# Altium schematic symbol library WR-TBL_Spring Clamp.SchLib: 367 symbols (part 5 of 6)
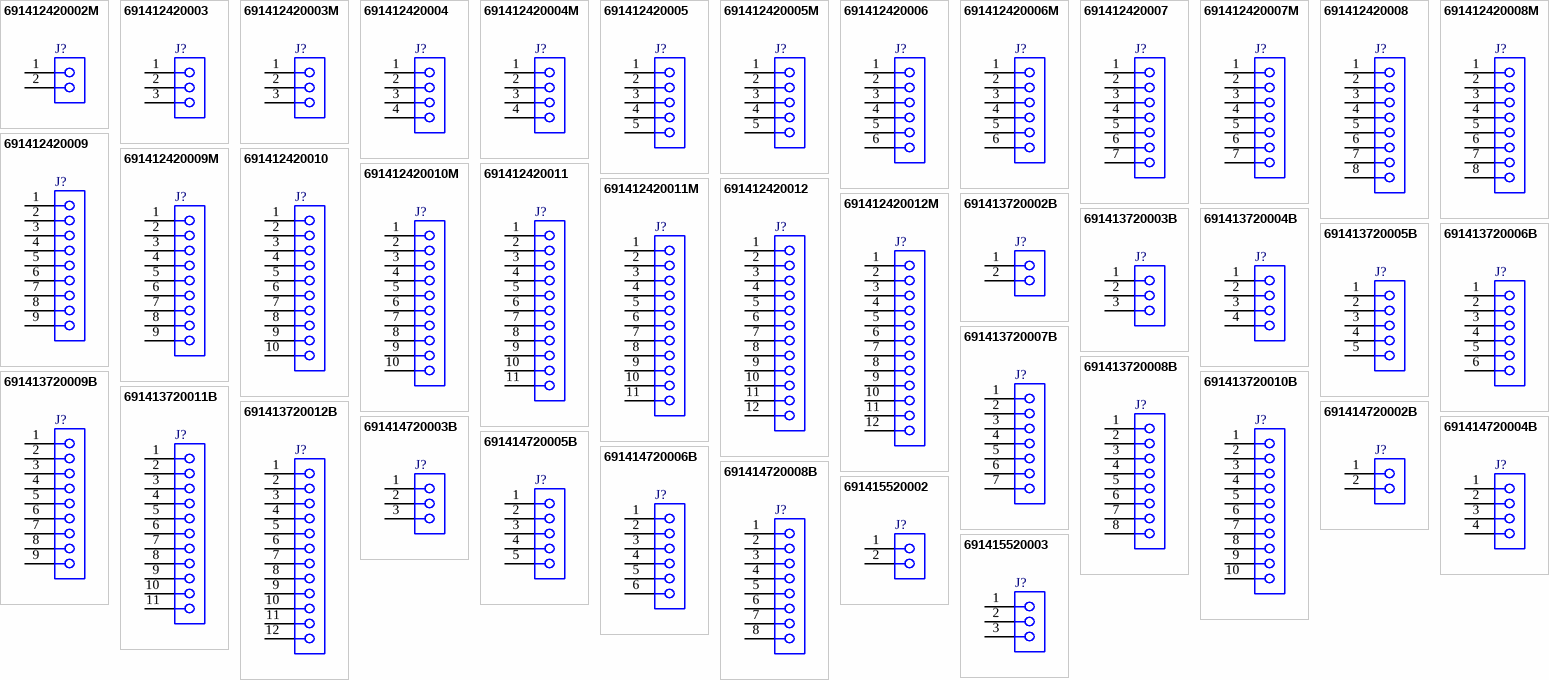
[diagram p13: symbols 691412420002M to 691415520003]

## 691412420005M
designator J?  (value not drawn)
WR-TBL Series 4124M 45° Entry, THT, pitch 7.62mm, 05p; Manufacturer: Wurth Elektronik; Modularity: No; Rated Current: 4A; Wire Section: 16 to 30 (AWG) 1.31 to 0.05 (mm^2); Working Voltage: 300V (AC); Manufacturer Part Number: 691412420005M; Product Series: WR-TBL; ComponentLink1Description: Website Link; ComponentLink1URL: https://www.we-online.com; ComponentLink2Description: Datasheet Link; ComponentLink2URL: https://www.we-online.com/components/products/datasheet/691412420005M; Mount: Through Hole; Operating Temperature Min: -30degC; Operating Temperature Max: 120degC; Packaging: Box; Application: Screwless; Number of Pins: 5; Number of Rows: 1; Orientation: 45deg; Lead Pitch: 7.62mm
footprint 691412420005M
pins: 1, 2, 3, 4, 5

## 691412420006
designator J?  (value not drawn)
WR-TBL Series 4124 45° Entry, THT, pitch 7.62mm, 06p; Manufacturer: Wurth Elektronik; Modularity: No; Rated Current: 4A; Wire Section: 16 to 30 (AWG) 1.31 to 0.05 (mm^2); Working Voltage: 300V (AC); Manufacturer Part Number: 691412420006; Product Series: WR-TBL; ComponentLink1Description: Website Link; ComponentLink1URL: https://www.we-online.com; ComponentLink2Description: Datasheet Link; ComponentLink2URL: https://www.we-online.com/components/products/datasheet/691412420006; Mount: Through Hole; Operating Temperature Min: -30degC; Operating Temperature Max: 120degC; Packaging: Box; Application: Screwless; Number of Pins: 6; Number of Rows: 1; Orientation: 45deg; Lead Pitch: 7.62mm
footprint 691412420006
pins: 1, 2, 3, 4, 5, 6

## 691412420006M
designator J?  (value not drawn)
WR-TBL Series 4124M 45° Entry, THT, pitch 7.62mm, 06p; Manufacturer: Wurth Elektronik; Modularity: No; Rated Current: 4A; Wire Section: 16 to 30 (AWG) 1.31 to 0.05 (mm^2); Working Voltage: 300V (AC); Manufacturer Part Number: 691412420006M; Product Series: WR-TBL; ComponentLink1Description: Website Link; ComponentLink1URL: https://www.we-online.com; ComponentLink2Description: Datasheet Link; ComponentLink2URL: https://www.we-online.com/components/products/datasheet/691412420006M; Mount: Through Hole; Operating Temperature Min: -30degC; Operating Temperature Max: 120degC; Packaging: Box; Application: Screwless; Number of Pins: 6; Number of Rows: 1; Orientation: 45deg; Lead Pitch: 7.62mm
footprint 691412420006M
pins: 1, 2, 3, 4, 5, 6

## 691412420007
designator J?  (value not drawn)
WR-TBL Series 4124 45° Entry, THT, pitch 7.62mm, 07p; Manufacturer: Wurth Elektronik; Modularity: No; Rated Current: 4A; Wire Section: 16 to 30 (AWG) 1.31 to 0.05 (mm^2); Working Voltage: 300V (AC); Manufacturer Part Number: 691412420007; Product Series: WR-TBL; ComponentLink1Description: Website Link; ComponentLink1URL: https://www.we-online.com; ComponentLink2Description: Datasheet Link; ComponentLink2URL: https://www.we-online.com/components/products/datasheet/691412420007; Mount: Through Hole; Operating Temperature Min: -30degC; Operating Temperature Max: 120degC; Packaging: Box; Application: Screwless; Number of Pins: 7; Number of Rows: 1; Orientation: 45deg; Lead Pitch: 7.62mm
footprint 691412420007
pins: 1, 2, 3, 4, 5, 6, 7

## 691412420007M
designator J?  (value not drawn)
WR-TBL Series 4124M 45° Entry, THT, pitch 7.62mm, 07p; Manufacturer: Wurth Elektronik; Modularity: No; Rated Current: 4A; Wire Section: 16 to 30 (AWG) 1.31 to 0.05 (mm^2); Working Voltage: 300V (AC); Manufacturer Part Number: 691412420007M; Product Series: WR-TBL; ComponentLink1Description: Website Link; ComponentLink1URL: https://www.we-online.com; ComponentLink2Description: Datasheet Link; ComponentLink2URL: https://www.we-online.com/components/products/datasheet/691412420007M; Mount: Through Hole; Operating Temperature Min: -30degC; Operating Temperature Max: 120degC; Packaging: Box; Application: Screwless; Number of Pins: 7; Number of Rows: 1; Orientation: 45deg; Lead Pitch: 7.62mm
footprint 691412420007M
pins: 1, 2, 3, 4, 5, 6, 7

## 691412420008
designator J?  (value not drawn)
WR-TBL Series 4124 45° Entry, THT, pitch 7.62mm, 08p; Manufacturer: Wurth Elektronik; Modularity: No; Rated Current: 4A; Wire Section: 16 to 30 (AWG) 1.31 to 0.05 (mm^2); Working Voltage: 300V (AC); Manufacturer Part Number: 691412420008; Product Series: WR-TBL; ComponentLink1Description: Website Link; ComponentLink1URL: https://www.we-online.com; ComponentLink2Description: Datasheet Link; ComponentLink2URL: https://www.we-online.com/components/products/datasheet/691412420008; Mount: Through Hole; Operating Temperature Min: -30degC; Operating Temperature Max: 120degC; Packaging: Box; Application: Screwless; Number of Pins: 8; Number of Rows: 1; Orientation: 45deg; Lead Pitch: 7.62mm
footprint 691412420008
pins: 1, 2, 3, 4, 5, 6, 7, 8

## 691412420008M
designator J?  (value not drawn)
WR-TBL Series 4124M 45° Entry, THT, pitch 7.62mm, 08p; Manufacturer: Wurth Elektronik; Modularity: No; Rated Current: 4A; Wire Section: 16 to 30 (AWG) 1.31 to 0.05 (mm^2); Working Voltage: 300V (AC); Manufacturer Part Number: 691412420008M; Product Series: WR-TBL; ComponentLink1Description: Website Link; ComponentLink1URL: https://www.we-online.com; ComponentLink2Description: Datasheet Link; ComponentLink2URL: https://www.we-online.com/components/products/datasheet/691412420008M; Mount: Through Hole; Operating Temperature Min: -30degC; Operating Temperature Max: 120degC; Packaging: Box; Application: Screwless; Number of Pins: 8; Number of Rows: 1; Orientation: 45deg; Lead Pitch: 7.62mm
footprint 691412420008M
pins: 1, 2, 3, 4, 5, 6, 7, 8

## 691412420009
designator J?  (value not drawn)
WR-TBL Series 4124 45° Entry, THT, pitch 7.62mm, 09p; Manufacturer: Wurth Elektronik; Modularity: No; Rated Current: 4A; Wire Section: 16 to 30 (AWG) 1.31 to 0.05 (mm^2); Working Voltage: 300V (AC); Manufacturer Part Number: 691412420009; Product Series: WR-TBL; ComponentLink1Description: Website Link; ComponentLink1URL: https://www.we-online.com; ComponentLink2Description: Datasheet Link; ComponentLink2URL: https://www.we-online.com/components/products/datasheet/691412420009; Mount: Through Hole; Operating Temperature Min: -30degC; Operating Temperature Max: 120degC; Packaging: Box; Application: Screwless; Number of Pins: 9; Number of Rows: 1; Orientation: 45deg; Lead Pitch: 7.62mm
footprint 691412420009
pins: 1, 2, 3, 4, 5, 6, 7, 8, 9

## 691412420009M
designator J?  (value not drawn)
WR-TBL Series 4124M 45° Entry, THT, pitch 7.62mm, 09p; Manufacturer: Wurth Elektronik; Modularity: No; Rated Current: 4A; Wire Section: 16 to 30 (AWG) 1.31 to 0.05 (mm^2); Working Voltage: 300V (AC); Manufacturer Part Number: 691412420009M; Product Series: WR-TBL; ComponentLink1Description: Website Link; ComponentLink1URL: https://www.we-online.com; ComponentLink2Description: Datasheet Link; ComponentLink2URL: https://www.we-online.com/components/products/datasheet/691412420009M; Mount: Through Hole; Operating Temperature Min: -30degC; Operating Temperature Max: 120degC; Packaging: Box; Application: Screwless; Number of Pins: 9; Number of Rows: 1; Orientation: 45deg; Lead Pitch: 7.62mm
footprint 691412420009M
pins: 1, 2, 3, 4, 5, 6, 7, 8, 9

## 691412420010
designator J?  (value not drawn)
WR-TBL Series 4124 45° Entry, THT, pitch 7.62mm, 10p; Manufacturer: Wurth Elektronik; Modularity: No; Rated Current: 4A; Wire Section: 16 to 30 (AWG) 1.31 to 0.05 (mm^2); Working Voltage: 300V (AC); Manufacturer Part Number: 691412420010; Product Series: WR-TBL; ComponentLink1Description: Website Link; ComponentLink1URL: https://www.we-online.com; ComponentLink2Description: Datasheet Link; ComponentLink2URL: https://www.we-online.com/components/products/datasheet/691412420010; Mount: Through Hole; Operating Temperature Min: -30degC; Operating Temperature Max: 120degC; Packaging: Box; Application: Screwless; Number of Pins: 10; Number of Rows: 1; Orientation: 45deg; Lead Pitch: 7.62mm
footprint 691412420010
pins: 1, 2, 3, 4, 5, 6, 7, 8, 9, 10

## 691412420010M
designator J?  (value not drawn)
WR-TBL Series 4124M 45° Entry, THT, pitch 7.62mm, 10p; Manufacturer: Wurth Elektronik; Modularity: No; Rated Current: 4A; Wire Section: 16 to 30 (AWG) 1.31 to 0.05 (mm^2); Working Voltage: 300V (AC); Manufacturer Part Number: 691412420010M; Product Series: WR-TBL; ComponentLink1Description: Website Link; ComponentLink1URL: https://www.we-online.com; ComponentLink2Description: Datasheet Link; ComponentLink2URL: https://www.we-online.com/components/products/datasheet/691412420010M; Mount: Through Hole; Operating Temperature Min: -30degC; Operating Temperature Max: 120degC; Packaging: Box; Application: Screwless; Number of Pins: 10; Number of Rows: 1; Orientation: 45deg; Lead Pitch: 7.62mm
footprint 691412420010M
pins: 1, 2, 3, 4, 5, 6, 7, 8, 9, 10

## 691412420011
designator J?  (value not drawn)
WR-TBL Series 4124 45° Entry, THT, pitch 7.62mm, 11p; Manufacturer: Wurth Elektronik; Modularity: No; Rated Current: 4A; Wire Section: 16 to 30 (AWG) 1.31 to 0.05 (mm^2); Working Voltage: 300V (AC); Manufacturer Part Number: 691412420011; Product Series: WR-TBL; ComponentLink1Description: Website Link; ComponentLink1URL: https://www.we-online.com; ComponentLink2Description: Datasheet Link; ComponentLink2URL: https://www.we-online.com/components/products/datasheet/691412420011; Mount: Through Hole; Operating Temperature Min: -30degC; Operating Temperature Max: 120degC; Packaging: Box; Application: Screwless; Number of Pins: 11; Number of Rows: 1; Orientation: 45deg; Lead Pitch: 7.62mm
footprint 691412420011
pins: 1, 2, 3, 4, 5, 6, 7, 8, 9, 10, 11

## 691412420011M
designator J?  (value not drawn)
WR-TBL Series 4124M 45° Entry, THT, pitch 7.62mm, 11p; Manufacturer: Wurth Elektronik; Modularity: No; Rated Current: 4A; Wire Section: 16 to 30 (AWG) 1.31 to 0.05 (mm^2); Working Voltage: 300V (AC); Manufacturer Part Number: 691412420011M; Product Series: WR-TBL; ComponentLink1Description: Website Link; ComponentLink1URL: https://www.we-online.com; ComponentLink2Description: Datasheet Link; ComponentLink2URL: https://www.we-online.com/components/products/datasheet/691412420011M; Mount: Through Hole; Operating Temperature Min: -30degC; Operating Temperature Max: 120degC; Packaging: Box; Application: Screwless; Number of Pins: 11; Number of Rows: 1; Orientation: 45deg; Lead Pitch: 7.62mm
footprint 691412420011M
pins: 1, 2, 3, 4, 5, 6, 7, 8, 9, 10, 11

## 691412420012
designator J?  (value not drawn)
WR-TBL Series 4124 45° Entry, THT, pitch 7.62mm, 12p; Manufacturer: Wurth Elektronik; Modularity: No; Rated Current: 4A; Wire Section: 16 to 30 (AWG) 1.31 to 0.05 (mm^2); Working Voltage: 300V (AC); Manufacturer Part Number: 691412420012; Product Series: WR-TBL; ComponentLink1Description: Website Link; ComponentLink1URL: https://www.we-online.com; ComponentLink2Description: Datasheet Link; ComponentLink2URL: https://www.we-online.com/components/products/datasheet/691412420012; Mount: Through Hole; Operating Temperature Min: -30degC; Operating Temperature Max: 120degC; Packaging: Box; Application: Screwless; Number of Pins: 12; Number of Rows: 1; Orientation: 45deg; Lead Pitch: 7.62mm
footprint 691412420012
pins: 1, 2, 3, 4, 5, 6, 7, 8, 9, 10, 11, 12

## 691412420012M
designator J?  (value not drawn)
WR-TBL Series 4124M 45° Entry, THT, pitch 7.62mm, 12p; Manufacturer: Wurth Elektronik; Modularity: No; Rated Current: 4A; Wire Section: 16 to 30 (AWG) 1.31 to 0.05 (mm^2); Working Voltage: 300V (AC); Manufacturer Part Number: 691412420012M; Product Series: WR-TBL; ComponentLink1Description: Website Link; ComponentLink1URL: https://www.we-online.com; ComponentLink2Description: Datasheet Link; ComponentLink2URL: https://www.we-online.com/components/products/datasheet/691412420012M; Mount: Through Hole; Operating Temperature Min: -30degC; Operating Temperature Max: 120degC; Packaging: Box; Application: Screwless; Number of Pins: 12; Number of Rows: 1; Orientation: 45deg; Lead Pitch: 7.62mm
footprint 691412420012M
pins: 1, 2, 3, 4, 5, 6, 7, 8, 9, 10, 11, 12

## 691413720002B
designator J?  (value not drawn)
WR-TBL Series 413B 45° Entry, THT, pitch 5mm, 02p; Manufacturer: Wurth Elektronik; Modularity: No; Rated Current: 15A; Wire Section: 12 to 28 (AWG) 3.31 to 0.0810 (mm^2); Working Voltage: 300V (AC); Manufacturer Part Number: 691413720002B; Product Series: WR-TBL; ComponentLink1Description: Website Link; ComponentLink1URL: https://www.we-online.com; ComponentLink2Description: Datasheet Link; ComponentLink2URL: https://www.we-online.com/components/products/datasheet/691413720002B; Mount: Through Hole; Operating Temperature Min: -40degC; Operating Temperature Max: 115degC; Packaging: Box; Application: Screwless; Number of Pins: 2; Number of Rows: 1; Orientation: 45deg; Lead Pitch: 5mm
footprint 691413720002B
pins: 1, 2

## 691413720003B
designator J?  (value not drawn)
WR-TBL Series 413B 45° Entry, THT, pitch 5mm, 03p; Manufacturer: Wurth Elektronik; Modularity: No; Rated Current: 15A; Wire Section: 12 to 28 (AWG) 3.31 to 0.0810 (mm^2); Working Voltage: 300V (AC); Manufacturer Part Number: 691413720003B; Product Series: WR-TBL; ComponentLink1Description: Website Link; ComponentLink1URL: https://www.we-online.com; ComponentLink2Description: Datasheet Link; ComponentLink2URL: https://www.we-online.com/components/products/datasheet/691413720003B; Mount: Through Hole; Operating Temperature Min: -40degC; Operating Temperature Max: 115degC; Packaging: Box; Application: Screwless; Number of Pins: 3; Number of Rows: 1; Orientation: 45deg; Lead Pitch: 5mm
footprint 691413720003B
pins: 1, 2, 3

## 691413720004B
designator J?  (value not drawn)
WR-TBL Series 413B 45° Entry, THT, pitch 5mm, 04p; Manufacturer: Wurth Elektronik; Modularity: No; Rated Current: 15A; Wire Section: 12 to 28 (AWG) 3.31 to 0.0810 (mm^2); Working Voltage: 300V (AC); Manufacturer Part Number: 691413720004B; Product Series: WR-TBL; ComponentLink1Description: Website Link; ComponentLink1URL: https://www.we-online.com; ComponentLink2Description: Datasheet Link; ComponentLink2URL: https://www.we-online.com/components/products/datasheet/691413720004B; Mount: Through Hole; Operating Temperature Min: -40degC; Operating Temperature Max: 115degC; Packaging: Box; Application: Screwless; Number of Pins: 4; Number of Rows: 1; Orientation: 45deg; Lead Pitch: 5mm
footprint 691413720004B
pins: 1, 2, 3, 4

## 691413720005B
designator J?  (value not drawn)
WR-TBL Series 413B 45° Entry, THT, pitch 5mm, 05p; Manufacturer: Wurth Elektronik; Modularity: No; Rated Current: 15A; Wire Section: 12 to 28 (AWG) 3.31 to 0.0810 (mm^2); Working Voltage: 300V (AC); Manufacturer Part Number: 691413720005B; Product Series: WR-TBL; ComponentLink1Description: Website Link; ComponentLink1URL: https://www.we-online.com; ComponentLink2Description: Datasheet Link; ComponentLink2URL: https://www.we-online.com/components/products/datasheet/691413720005B; Mount: Through Hole; Operating Temperature Min: -40degC; Operating Temperature Max: 115degC; Packaging: Box; Application: Screwless; Number of Pins: 5; Number of Rows: 1; Orientation: 45deg; Lead Pitch: 5mm
footprint 691413720005B
pins: 1, 2, 3, 4, 5

## 691413720006B
designator J?  (value not drawn)
WR-TBL Series 413B 45° Entry, THT, pitch 5mm, 06p; Manufacturer: Wurth Elektronik; Modularity: No; Rated Current: 15A; Wire Section: 12 to 28 (AWG) 3.31 to 0.0810 (mm^2); Working Voltage: 300V (AC); Manufacturer Part Number: 691413720006B; Product Series: WR-TBL; ComponentLink1Description: Website Link; ComponentLink1URL: https://www.we-online.com; ComponentLink2Description: Datasheet Link; ComponentLink2URL: https://www.we-online.com/components/products/datasheet/691413720006B; Mount: Through Hole; Operating Temperature Min: -40degC; Operating Temperature Max: 115degC; Packaging: Box; Application: Screwless; Number of Pins: 6; Number of Rows: 1; Orientation: 45deg; Lead Pitch: 5mm
footprint 691413720006B
pins: 1, 2, 3, 4, 5, 6

## 691413720007B
designator J?  (value not drawn)
WR-TBL Series 413B 45° Entry, THT, pitch 5mm, 07p; Manufacturer: Wurth Elektronik; Modularity: No; Rated Current: 15A; Wire Section: 12 to 28 (AWG) 3.31 to 0.0810 (mm^2); Working Voltage: 300V (AC); Manufacturer Part Number: 691413720007B; Product Series: WR-TBL; ComponentLink1Description: Website Link; ComponentLink1URL: https://www.we-online.com; ComponentLink2Description: Datasheet Link; ComponentLink2URL: https://www.we-online.com/components/products/datasheet/691413720007B; Mount: Through Hole; Operating Temperature Min: -40degC; Operating Temperature Max: 115degC; Packaging: Box; Application: Screwless; Number of Pins: 7; Number of Rows: 1; Orientation: 45deg; Lead Pitch: 5mm
footprint 691413720007B
pins: 1, 2, 3, 4, 5, 6, 7

## 691413720008B
designator J?  (value not drawn)
WR-TBL Series 413B 45° Entry, THT, pitch 5mm, 08p; Manufacturer: Wurth Elektronik; Modularity: No; Rated Current: 15A; Wire Section: 12 to 28 (AWG) 3.31 to 0.0810 (mm^2); Working Voltage: 300V (AC); Manufacturer Part Number: 691413720008B; Product Series: WR-TBL; ComponentLink1Description: Website Link; ComponentLink1URL: https://www.we-online.com; ComponentLink2Description: Datasheet Link; ComponentLink2URL: https://www.we-online.com/components/products/datasheet/691413720008B; Mount: Through Hole; Operating Temperature Min: -40degC; Operating Temperature Max: 115degC; Packaging: Box; Application: Screwless; Number of Pins: 8; Number of Rows: 1; Orientation: 45deg; Lead Pitch: 5mm
footprint 691413720008B
pins: 1, 2, 3, 4, 5, 6, 7, 8

## 691413720009B
designator J?  (value not drawn)
WR-TBL Series 413B 45° Entry, THT, pitch 5mm, 09p; Manufacturer: Wurth Elektronik; Modularity: No; Rated Current: 15A; Wire Section: 12 to 28 (AWG) 3.31 to 0.0810 (mm^2); Working Voltage: 300V (AC); Manufacturer Part Number: 691413720009B; Product Series: WR-TBL; ComponentLink1Description: Website Link; ComponentLink1URL: https://www.we-online.com; ComponentLink2Description: Datasheet Link; ComponentLink2URL: https://www.we-online.com/components/products/datasheet/691413720009B; Mount: Through Hole; Operating Temperature Min: -40degC; Operating Temperature Max: 115degC; Packaging: Box; Application: Screwless; Number of Pins: 9; Number of Rows: 1; Orientation: 45deg; Lead Pitch: 5mm
footprint 691413720009B
pins: 1, 2, 3, 4, 5, 6, 7, 8, 9

## 691413720010B
designator J?  (value not drawn)
WR-TBL Series 413B 45° Entry, THT, pitch 5mm, 10p; Manufacturer: Wurth Elektronik; Modularity: No; Rated Current: 15A; Wire Section: 12 to 28 (AWG) 3.31 to 0.0810 (mm^2); Working Voltage: 300V (AC); Manufacturer Part Number: 691413720010B; Product Series: WR-TBL; ComponentLink1Description: Website Link; ComponentLink1URL: https://www.we-online.com; ComponentLink2Description: Datasheet Link; ComponentLink2URL: https://www.we-online.com/components/products/datasheet/691413720010B; Mount: Through Hole; Operating Temperature Min: -40degC; Operating Temperature Max: 115degC; Packaging: Box; Application: Screwless; Number of Pins: 10; Number of Rows: 1; Orientation: 45deg; Lead Pitch: 5mm
footprint 691413720010B
pins: 1, 2, 3, 4, 5, 6, 7, 8, 9, 10

## 691413720011B
designator J?  (value not drawn)
WR-TBL Series 413B 45° Entry, THT, pitch 5mm, 11p; Manufacturer: Wurth Elektronik; Modularity: No; Rated Current: 15A; Wire Section: 12 to 28 (AWG) 3.31 to 0.0810 (mm^2); Working Voltage: 300V (AC); Manufacturer Part Number: 691413720011B; Product Series: WR-TBL; ComponentLink1Description: Website Link; ComponentLink1URL: https://www.we-online.com; ComponentLink2Description: Datasheet Link; ComponentLink2URL: https://www.we-online.com/components/products/datasheet/691413720011B; Mount: Through Hole; Operating Temperature Min: -40degC; Operating Temperature Max: 115degC; Packaging: Box; Application: Screwless; Number of Pins: 11; Number of Rows: 1; Orientation: 45deg; Lead Pitch: 5mm
footprint 691413720011B
pins: 1, 2, 3, 4, 5, 6, 7, 8, 9, 10, 11

## 691413720012B
designator J?  (value not drawn)
WR-TBL Series 413B 45° Entry, THT, pitch 5mm, 12p; Manufacturer: Wurth Elektronik; Modularity: No; Rated Current: 15A; Wire Section: 12 to 28 (AWG) 3.31 to 0.0810 (mm^2); Working Voltage: 300V (AC); Manufacturer Part Number: 691413720012B; Product Series: WR-TBL; ComponentLink1Description: Website Link; ComponentLink1URL: https://www.we-online.com; ComponentLink2Description: Datasheet Link; ComponentLink2URL: https://www.we-online.com/components/products/datasheet/691413720012B; Mount: Through Hole; Operating Temperature Min: -40degC; Operating Temperature Max: 115degC; Packaging: Box; Application: Screwless; Number of Pins: 12; Number of Rows: 1; Orientation: 45deg; Lead Pitch: 5mm
footprint 691413720012B
pins: 1, 2, 3, 4, 5, 6, 7, 8, 9, 10, 11, 12

## 691414720002B
designator J?  (value not drawn)
WR-TBL Series 4147B 45° Entry, THT, pitch 5mm, 02p; Manufacturer: Wurth Elektronik; Modularity: No; Rated Current: 16A; Wire Section: 14 to 28 (AWG) 2.08 to 0.0810 (mm^2); Working Voltage: 300V (AC); Manufacturer Part Number: 691414720002B; Product Series: WR-TBL; ComponentLink1Description: Website Link; ComponentLink1URL: https://www.we-online.com; ComponentLink2Description: Datasheet Link; ComponentLink2URL: https://www.we-online.com/components/products/datasheet/691414720002B; Mount: Through Hole; Operating Temperature Min: -40degC; Operating Temperature Max: 105degC; Packaging: Box; Application: Screwless; Number of Pins: 2; Number of Rows: 1; Orientation: 45deg; Lead Pitch: 5mm
footprint 691414720002B
pins: 1, 2

## 691414720003B
designator J?  (value not drawn)
WR-TBL Series 4147B 45° Entry, THT, pitch 5mm, 03p; Manufacturer: Wurth Elektronik; Modularity: No; Rated Current: 16A; Wire Section: 14 to 28 (AWG) 2.08 to 0.0810 (mm^2); Working Voltage: 300V (AC); Manufacturer Part Number: 691414720003B; Product Series: WR-TBL; ComponentLink1Description: Website Link; ComponentLink1URL: https://www.we-online.com; ComponentLink2Description: Datasheet Link; ComponentLink2URL: https://www.we-online.com/components/products/datasheet/691414720003B; Mount: Through Hole; Operating Temperature Min: -40degC; Operating Temperature Max: 105degC; Packaging: Box; Application: Screwless; Number of Pins: 3; Number of Rows: 1; Orientation: 45deg; Lead Pitch: 5mm
footprint 691414720003B
pins: 1, 2, 3

## 691414720004B
designator J?  (value not drawn)
WR-TBL Series 4147B 45° Entry, THT, pitch 5mm, 04p; Manufacturer: Wurth Elektronik; Modularity: No; Rated Current: 16A; Wire Section: 14 to 28 (AWG) 2.08 to 0.0810 (mm^2); Working Voltage: 300V (AC); Manufacturer Part Number: 691414720004B; Product Series: WR-TBL; ComponentLink1Description: Website Link; ComponentLink1URL: https://www.we-online.com; ComponentLink2Description: Datasheet Link; ComponentLink2URL: https://www.we-online.com/components/products/datasheet/691414720004B; Mount: Through Hole; Operating Temperature Min: -40degC; Operating Temperature Max: 105degC; Packaging: Box; Application: Screwless; Number of Pins: 4; Number of Rows: 1; Orientation: 45deg; Lead Pitch: 5mm
footprint 691414720004B
pins: 1, 2, 3, 4

## 691414720005B
designator J?  (value not drawn)
WR-TBL Series 4147B 45° Entry, THT, pitch 5mm, 05p; Manufacturer: Wurth Elektronik; Modularity: No; Rated Current: 16A; Wire Section: 14 to 28 (AWG) 2.08 to 0.0810 (mm^2); Working Voltage: 300V (AC); Manufacturer Part Number: 691414720005B; Product Series: WR-TBL; ComponentLink1Description: Website Link; ComponentLink1URL: https://www.we-online.com; ComponentLink2Description: Datasheet Link; ComponentLink2URL: https://www.we-online.com/components/products/datasheet/691414720005B; Mount: Through Hole; Operating Temperature Min: -40degC; Operating Temperature Max: 105degC; Packaging: Box; Application: Screwless; Number of Pins: 5; Number of Rows: 1; Orientation: 45deg; Lead Pitch: 5mm
footprint 691414720005B
pins: 1, 2, 3, 4, 5

## 691414720006B
designator J?  (value not drawn)
WR-TBL Series 4147B 45° Entry, THT, pitch 5mm, 06p; Manufacturer: Wurth Elektronik; Modularity: No; Rated Current: 16A; Wire Section: 14 to 28 (AWG) 2.08 to 0.0810 (mm^2); Working Voltage: 300V (AC); Manufacturer Part Number: 691414720006B; Product Series: WR-TBL; ComponentLink1Description: Website Link; ComponentLink1URL: https://www.we-online.com; ComponentLink2Description: Datasheet Link; ComponentLink2URL: https://www.we-online.com/components/products/datasheet/691414720006B; Mount: Through Hole; Operating Temperature Min: -40degC; Operating Temperature Max: 105degC; Packaging: Box; Application: Screwless; Number of Pins: 6; Number of Rows: 1; Orientation: 45deg; Lead Pitch: 5mm
footprint 691414720006B
pins: 1, 2, 3, 4, 5, 6

## 691414720008B
designator J?  (value not drawn)
WR-TBL Series 4147B 45° Entry, THT, pitch 5mm, 08p; Manufacturer: Wurth Elektronik; Modularity: No; Rated Current: 16A; Wire Section: 14 to 28 (AWG) 2.08 to 0.0810 (mm^2); Working Voltage: 300V (AC); Manufacturer Part Number: 691414720008B; Product Series: WR-TBL; ComponentLink1Description: Website Link; ComponentLink1URL: https://www.we-online.com; ComponentLink2Description: Datasheet Link; ComponentLink2URL: https://www.we-online.com/components/products/datasheet/691414720008B; Mount: Through Hole; Operating Temperature Min: -40degC; Operating Temperature Max: 105degC; Packaging: Box; Application: Screwless; Number of Pins: 8; Number of Rows: 1; Orientation: 45deg; Lead Pitch: 5mm
footprint 691414720008B
pins: 1, 2, 3, 4, 5, 6, 7, 8

## 691415520002
designator J?  (value not drawn)
WR-TBL Series 4155 45° Entry, THT, pitch 5.08mm, 02p; Manufacturer: Wurth Elektronik; Insulator Material: PA66; Modularity: No; Rated Current (cULus): 15A; Rated Current (VDE): 13.5A; Wire Section: 24 to 14 (AWG) 0.25 to 1.5 (mm^2); Working Voltage (cULus): 300V (AC); Working Voltage (VDE): 250V (AC); Withstanding Voltage (cULus): 1600V (AC); Withstanding Voltage (VDE): 2200V (AC); Manufacturer Part Number: 691415520002; Product Series: WR-TBL; ComponentLink1Description: Website Link; ComponentLink1URL: https://www.we-online.com; ComponentLink2Description: Datasheet Link; ComponentLink2URL: https://www.we-online.com/components/products/datasheet/691415520002; Mount: Through Hole; Operating Temperature Min: -30degC; Operating Temperature Max: 115degC; Packaging: Box; Application: Screwless; Number of Pins: 2; Number of Rows: 1; Orientation: 45deg; Lead Pitch: 5.08mm
footprint 691415520002
pins: 1, 2

## 691415520003
designator J?  (value not drawn)
WR-TBL Series 4155 45° Entry, THT, pitch 5.08mm, 03p; Manufacturer: Wurth Elektronik; Insulator Material: PA66; Modularity: No; Rated Current (cULus): 15A; Rated Current (VDE): 13.5A; Wire Section: 24 to 14 (AWG) 0.25 to 1.5 (mm^2); Working Voltage (cULus): 300V (AC); Working Voltage (VDE): 250V (AC); Withstanding Voltage (cULus): 1600V (AC); Withstanding Voltage (VDE): 2200V (AC); Manufacturer Part Number: 691415520003; Product Series: WR-TBL; ComponentLink1Description: Website Link; ComponentLink1URL: https://www.we-online.com; ComponentLink2Description: Datasheet Link; ComponentLink2URL: https://www.we-online.com/components/products/datasheet/691415520003; Mount: Through Hole; Operating Temperature Min: -30degC; Operating Temperature Max: 115degC; Packaging: Box; Application: Screwless; Number of Pins: 3; Number of Rows: 1; Orientation: 45deg; Lead Pitch: 5.08mm
footprint 691415520003
pins: 1, 2, 3

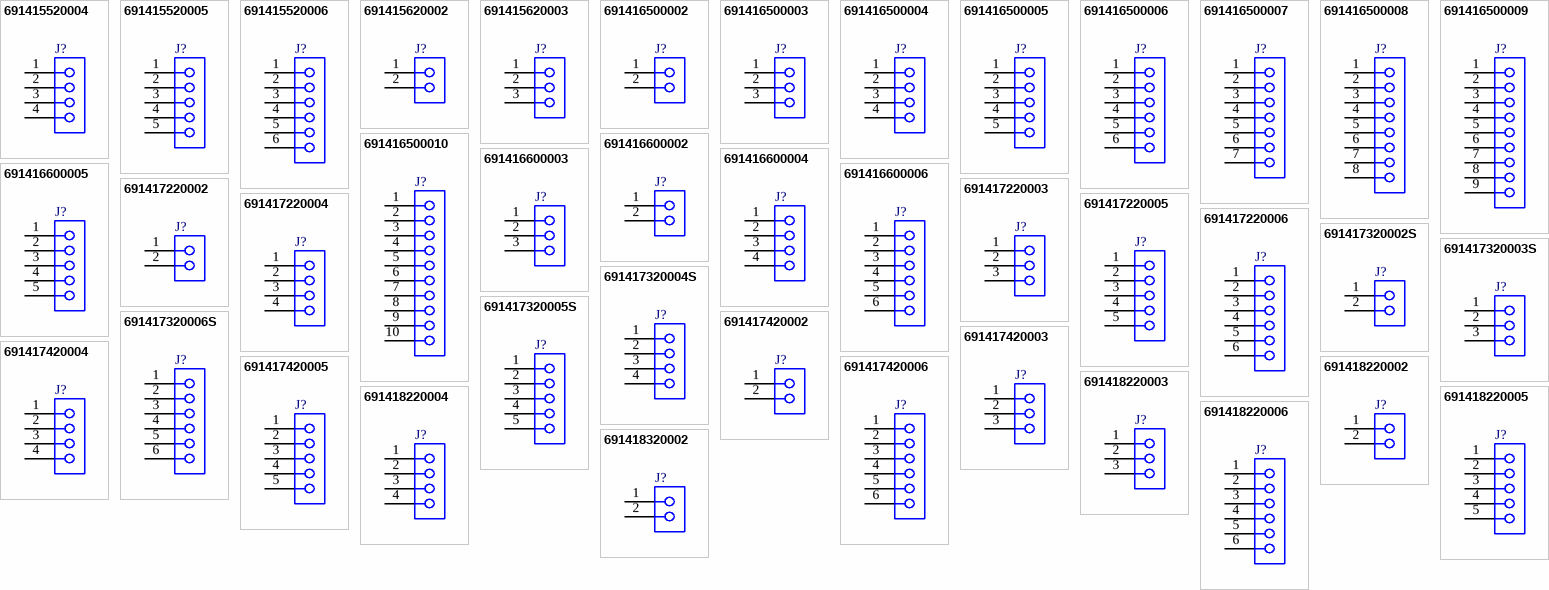
[diagram p7: symbols 691415520004 to 691418320002]

## 691415520004
designator J?  (value not drawn)
WR-TBL Series 4155 45° Entry, THT, pitch 5.08mm, 04p; Manufacturer: Wurth Elektronik; Insulator Material: PA66; Modularity: No; Rated Current (cULus): 15A; Rated Current (VDE): 13.5A; Wire Section: 24 to 14 (AWG) 0.25 to 1.5 (mm^2); Working Voltage (cULus): 300V (AC); Working Voltage (VDE): 250V (AC); Withstanding Voltage (cULus): 1600V (AC); Withstanding Voltage (VDE): 2200V (AC); Manufacturer Part Number: 691415520004; Product Series: WR-TBL; ComponentLink1Description: Website Link; ComponentLink1URL: https://www.we-online.com; ComponentLink2Description: Datasheet Link; ComponentLink2URL: https://www.we-online.com/components/products/datasheet/691415520004; Mount: Through Hole; Operating Temperature Min: -30degC; Operating Temperature Max: 115degC; Packaging: Box; Application: Screwless; Number of Pins: 4; Number of Rows: 1; Orientation: 45deg; Lead Pitch: 5.08mm
footprint 691415520004
pins: 1, 2, 3, 4

## 691415520005
designator J?  (value not drawn)
WR-TBL Series 4155 45° Entry, THT, pitch 5.08mm, 05p; Manufacturer: Wurth Elektronik; Insulator Material: PA66; Modularity: No; Rated Current (cULus): 15A; Rated Current (VDE): 13.5A; Wire Section: 24 to 14 (AWG) 0.25 to 1.5 (mm^2); Working Voltage (cULus): 300V (AC); Working Voltage (VDE): 250V (AC); Withstanding Voltage (cULus): 1600V (AC); Withstanding Voltage (VDE): 2200V (AC); Manufacturer Part Number: 691415520005; Product Series: WR-TBL; ComponentLink1Description: Website Link; ComponentLink1URL: https://www.we-online.com; ComponentLink2Description: Datasheet Link; ComponentLink2URL: https://www.we-online.com/components/products/datasheet/691415520005; Mount: Through Hole; Operating Temperature Min: -30degC; Operating Temperature Max: 115degC; Packaging: Box; Application: Screwless; Number of Pins: 5; Number of Rows: 1; Orientation: 45deg; Lead Pitch: 5.08mm
footprint 691415520005
pins: 1, 2, 3, 4, 5

## 691415520006
designator J?  (value not drawn)
WR-TBL Series 4155 45° Entry, THT, pitch 5.08mm, 06p; Manufacturer: Wurth Elektronik; Insulator Material: PA66; Modularity: No; Rated Current (cULus): 15A; Rated Current (VDE): 13.5A; Wire Section: 24 to 14 (AWG) 0.25 to 1.5 (mm^2); Working Voltage (cULus): 300V (AC); Working Voltage (VDE): 250V (AC); Withstanding Voltage (cULus): 1600V (AC); Withstanding Voltage (VDE): 2200V (AC); Manufacturer Part Number: 691415520006; Product Series: WR-TBL; ComponentLink1Description: Website Link; ComponentLink1URL: https://www.we-online.com; ComponentLink2Description: Datasheet Link; ComponentLink2URL: https://www.we-online.com/components/products/datasheet/691415520006; Mount: Through Hole; Operating Temperature Min: -30degC; Operating Temperature Max: 115degC; Packaging: Box; Application: Screwless; Number of Pins: 6; Number of Rows: 1; Orientation: 45deg; Lead Pitch: 5.08mm
footprint 691415520006
pins: 1, 2, 3, 4, 5, 6

## 691415620002
designator J?  (value not drawn)
WR-TBL Series 4156 45° Entry, THT, pitch 10.16mm, 02p; Manufacturer: Wurth Elektronik; Insulator Material: PA66; Modularity: No; Rated Current (cULus): 15A; Rated Current (VDE): 13.5A; Wire Section: 24 to 14 (AWG) 0.25 to 1.5 (mm^2); Working Voltage (cULus): 300V (AC); Working Voltage (VDE): 1000V (AC); Withstanding Voltage (cULus): 1600V (AC); Withstanding Voltage (VDE): 4200V (AC); Manufacturer Part Number: 691415620002; Product Series: WR-TBL; ComponentLink1Description: Website Link; ComponentLink1URL: https://www.we-online.com; ComponentLink2Description: Datasheet Link; ComponentLink2URL: https://www.we-online.com/components/products/datasheet/691415620002; Mount: Through Hole; Operating Temperature Min: -30degC; Operating Temperature Max: 110degC; Packaging: Box; Application: Screwless; Number of Pins: 2; Number of Rows: 1; Orientation: 45deg; Lead Pitch: 10.16mm
footprint 691415620002
pins: 1, 2

## 691415620003
designator J?  (value not drawn)
WR-TBL Series 4156 45° Entry, THT, pitch 10.16mm, 03p; Manufacturer: Wurth Elektronik; Insulator Material: PA66; Modularity: No; Rated Current (cULus): 15A; Rated Current (VDE): 13.5A; Wire Section: 24 to 14 (AWG) 0.25 to 1.5 (mm^2); Working Voltage (cULus): 300V (AC); Working Voltage (VDE): 1000V (AC); Withstanding Voltage (cULus): 1600V (AC); Withstanding Voltage (VDE): 4200V (AC); Manufacturer Part Number: 691415620003; Product Series: WR-TBL; ComponentLink1Description: Website Link; ComponentLink1URL: https://www.we-online.com; ComponentLink2Description: Datasheet Link; ComponentLink2URL: https://www.we-online.com/components/products/datasheet/691415620003; Mount: Through Hole; Operating Temperature Min: -30degC; Operating Temperature Max: 110degC; Packaging: Box; Application: Screwless; Number of Pins: 3; Number of Rows: 1; Orientation: 45deg; Lead Pitch: 10.16mm
footprint 691415620003
pins: 1, 2, 3

## 691416500002
designator J?  (value not drawn)
WR-TBL Series 4165 Vertical Entry, THT, pitch 5.08mm, 02p; Manufacturer: Wurth Elektronik; Modularity: No; Rated Current: 10A; Wire Section: 16 to 30 (AWG) 1.31 to 0.0509 (mm^2); Working Voltage: 300V (AC); Manufacturer Part Number: 691416500002; Product Series: WR-TBL; ComponentLink1Description: Website Link; ComponentLink1URL: https://www.we-online.com; ComponentLink2Description: Datasheet Link; ComponentLink2URL: https://www.we-online.com/components/products/datasheet/691416500002; Mount: Through Hole; Operating Temperature Min: -30degC; Operating Temperature Max: 120degC; Packaging: Box; Application: Screwless; Number of Pins: 2; Number of Rows: 1; Orientation: Vertical; Lead Pitch: 5.08mm
footprint 691416500002
pins: 1, 2

## 691416500003
designator J?  (value not drawn)
WR-TBL Series 4165 Vertical Entry, THT, pitch 5.08mm, 03p; Manufacturer: Wurth Elektronik; Modularity: No; Rated Current: 10A; Wire Section: 16 to 30 (AWG) 1.31 to 0.0509 (mm^2); Working Voltage: 300V (AC); Manufacturer Part Number: 691416500003; Product Series: WR-TBL; ComponentLink1Description: Website Link; ComponentLink1URL: https://www.we-online.com; ComponentLink2Description: Datasheet Link; ComponentLink2URL: https://www.we-online.com/components/products/datasheet/691416500003; Mount: Through Hole; Operating Temperature Min: -30degC; Operating Temperature Max: 120degC; Packaging: Box; Application: Screwless; Number of Pins: 3; Number of Rows: 1; Orientation: Vertical; Lead Pitch: 5.08mm
footprint 691416500003
pins: 1, 2, 3

## 691416500004
designator J?  (value not drawn)
WR-TBL Series 4165 Vertical Entry, THT, pitch 5.08mm, 04p; Manufacturer: Wurth Elektronik; Modularity: No; Rated Current: 10A; Wire Section: 16 to 30 (AWG) 1.31 to 0.0509 (mm^2); Working Voltage: 300V (AC); Manufacturer Part Number: 691416500004; Product Series: WR-TBL; ComponentLink1Description: Website Link; ComponentLink1URL: https://www.we-online.com; ComponentLink2Description: Datasheet Link; ComponentLink2URL: https://www.we-online.com/components/products/datasheet/691416500004; Mount: Through Hole; Operating Temperature Min: -30degC; Operating Temperature Max: 120degC; Packaging: Box; Application: Screwless; Number of Pins: 4; Number of Rows: 1; Orientation: Vertical; Lead Pitch: 5.08mm
footprint 691416500004
pins: 1, 2, 3, 4

## 691416500005
designator J?  (value not drawn)
WR-TBL Series 4165 Vertical Entry, THT, pitch 5.08mm, 05p; Manufacturer: Wurth Elektronik; Modularity: No; Rated Current: 10A; Wire Section: 16 to 30 (AWG) 1.31 to 0.0509 (mm^2); Working Voltage: 300V (AC); Manufacturer Part Number: 691416500005; Product Series: WR-TBL; ComponentLink1Description: Website Link; ComponentLink1URL: https://www.we-online.com; ComponentLink2Description: Datasheet Link; ComponentLink2URL: https://www.we-online.com/components/products/datasheet/691416500005; Mount: Through Hole; Operating Temperature Min: -30degC; Operating Temperature Max: 120degC; Packaging: Box; Application: Screwless; Number of Pins: 5; Number of Rows: 1; Orientation: Vertical; Lead Pitch: 5.08mm
footprint 691416500005
pins: 1, 2, 3, 4, 5

## 691416500006
designator J?  (value not drawn)
WR-TBL Series 4165 Vertical Entry, THT, pitch 5.08mm, 06p; Manufacturer: Wurth Elektronik; Modularity: No; Rated Current: 10A; Wire Section: 16 to 30 (AWG) 1.31 to 0.0509 (mm^2); Working Voltage: 300V (AC); Manufacturer Part Number: 691416500006; Product Series: WR-TBL; ComponentLink1Description: Website Link; ComponentLink1URL: https://www.we-online.com; ComponentLink2Description: Datasheet Link; ComponentLink2URL: https://www.we-online.com/components/products/datasheet/691416500006; Mount: Through Hole; Operating Temperature Min: -30degC; Operating Temperature Max: 120degC; Packaging: Box; Application: Screwless; Number of Pins: 6; Number of Rows: 1; Orientation: Vertical; Lead Pitch: 5.08mm
footprint 691416500006
pins: 1, 2, 3, 4, 5, 6

## 691416500007
designator J?  (value not drawn)
WR-TBL Series 4165 Vertical Entry, THT, pitch 5.08mm, 07p; Manufacturer: Wurth Elektronik; Modularity: No; Rated Current: 10A; Wire Section: 16 to 30 (AWG) 1.31 to 0.0509 (mm^2); Working Voltage: 300V (AC); Manufacturer Part Number: 691416500007; Product Series: WR-TBL; ComponentLink1Description: Website Link; ComponentLink1URL: https://www.we-online.com; ComponentLink2Description: Datasheet Link; ComponentLink2URL: https://www.we-online.com/components/products/datasheet/691416500007; Mount: Through Hole; Operating Temperature Min: -30degC; Operating Temperature Max: 120degC; Packaging: Box; Application: Screwless; Number of Pins: 7; Number of Rows: 1; Orientation: Vertical; Lead Pitch: 5.08mm
footprint 691416500007
pins: 1, 2, 3, 4, 5, 6, 7

## 691416500008
designator J?  (value not drawn)
WR-TBL Series 4165 Vertical Entry, THT, pitch 5.08mm, 08p; Manufacturer: Wurth Elektronik; Modularity: No; Rated Current: 10A; Wire Section: 16 to 30 (AWG) 1.31 to 0.0509 (mm^2); Working Voltage: 300V (AC); Manufacturer Part Number: 691416500008; Product Series: WR-TBL; ComponentLink1Description: Website Link; ComponentLink1URL: https://www.we-online.com; ComponentLink2Description: Datasheet Link; ComponentLink2URL: https://www.we-online.com/components/products/datasheet/691416500008; Mount: Through Hole; Operating Temperature Min: -30degC; Operating Temperature Max: 120degC; Packaging: Box; Application: Screwless; Number of Pins: 8; Number of Rows: 1; Orientation: Vertical; Lead Pitch: 5.08mm
footprint 691416500008
pins: 1, 2, 3, 4, 5, 6, 7, 8

## 691416500009
designator J?  (value not drawn)
WR-TBL Series 4165 Vertical Entry, THT, pitch 5.08mm, 09p; Manufacturer: Wurth Elektronik; Modularity: No; Rated Current: 10A; Wire Section: 16 to 30 (AWG) 1.31 to 0.0509 (mm^2); Working Voltage: 300V (AC); Manufacturer Part Number: 691416500009; Product Series: WR-TBL; ComponentLink1Description: Website Link; ComponentLink1URL: https://www.we-online.com; ComponentLink2Description: Datasheet Link; ComponentLink2URL: https://www.we-online.com/components/products/datasheet/691416500009; Mount: Through Hole; Operating Temperature Min: -30degC; Operating Temperature Max: 120degC; Packaging: Box; Application: Screwless; Number of Pins: 9; Number of Rows: 1; Orientation: Vertical; Lead Pitch: 5.08mm
footprint 691416500009
pins: 1, 2, 3, 4, 5, 6, 7, 8, 9

## 691416500010
designator J?  (value not drawn)
WR-TBL Series 4165 Vertical Entry, THT, pitch 5.08mm, 10p; Manufacturer: Wurth Elektronik; Modularity: No; Rated Current: 10A; Wire Section: 16 to 30 (AWG) 1.31 to 0.0509 (mm^2); Working Voltage: 300V (AC); Manufacturer Part Number: 691416500010; Product Series: WR-TBL; ComponentLink1Description: Website Link; ComponentLink1URL: https://www.we-online.com; ComponentLink2Description: Datasheet Link; ComponentLink2URL: https://www.we-online.com/components/products/datasheet/691416500010; Mount: Through Hole; Operating Temperature Min: -30degC; Operating Temperature Max: 120degC; Packaging: Box; Application: Screwless; Number of Pins: 10; Number of Rows: 1; Orientation: Vertical; Lead Pitch: 5.08mm
footprint 691416500010
pins: 1, 2, 3, 4, 5, 6, 7, 8, 9, 10

## 691416600002
designator J?  (value not drawn)
WR-TBL Series 4166 Vertical Entry, THT, pitch 10.16mm, 02p; Manufacturer: Wurth Elektronik; Modularity: No; Rated Current: 10A; Wire Section: 16 to 30 (AWG) 1.31 to 0.0509 (mm^2); Working Voltage: 300V (AC); Manufacturer Part Number: 691416600002; Product Series: WR-TBL; ComponentLink1Description: Website Link; ComponentLink1URL: https://www.we-online.com; ComponentLink2Description: Datasheet Link; ComponentLink2URL: https://www.we-online.com/components/products/datasheet/691416600002; Mount: Through Hole; Operating Temperature Min: -30degC; Operating Temperature Max: 120degC; Packaging: Box; Application: Screwless; Number of Pins: 2; Number of Rows: 1; Orientation: Vertical; Lead Pitch: 10.16mm
footprint 691416600002
pins: 1, 2

## 691416600003
designator J?  (value not drawn)
WR-TBL Series 4166 Vertical Entry, THT, pitch 10.16mm, 03p; Manufacturer: Wurth Elektronik; Modularity: No; Rated Current: 10A; Wire Section: 16 to 30 (AWG) 1.31 to 0.0509 (mm^2); Working Voltage: 300V (AC); Manufacturer Part Number: 691416600003; Product Series: WR-TBL; ComponentLink1Description: Website Link; ComponentLink1URL: https://www.we-online.com; ComponentLink2Description: Datasheet Link; ComponentLink2URL: https://www.we-online.com/components/products/datasheet/691416600003; Mount: Through Hole; Operating Temperature Min: -30degC; Operating Temperature Max: 120degC; Packaging: Box; Application: Screwless; Number of Pins: 3; Number of Rows: 1; Orientation: Vertical; Lead Pitch: 10.16mm
footprint 691416600003
pins: 1, 2, 3

## 691416600004
designator J?  (value not drawn)
WR-TBL Series 4166 Vertical Entry, THT, pitch 10.16mm, 04p; Manufacturer: Wurth Elektronik; Modularity: No; Rated Current: 10A; Wire Section: 16 to 30 (AWG) 1.31 to 0.0509 (mm^2); Working Voltage: 300V (AC); Manufacturer Part Number: 691416600004; Product Series: WR-TBL; ComponentLink1Description: Website Link; ComponentLink1URL: https://www.we-online.com; ComponentLink2Description: Datasheet Link; ComponentLink2URL: https://www.we-online.com/components/products/datasheet/691416600004; Mount: Through Hole; Operating Temperature Min: -30degC; Operating Temperature Max: 120degC; Packaging: Box; Application: Screwless; Number of Pins: 4; Number of Rows: 1; Orientation: Vertical; Lead Pitch: 10.16mm
footprint 691416600004
pins: 1, 2, 3, 4

## 691416600005
designator J?  (value not drawn)
WR-TBL Series 4166 Vertical Entry, THT, pitch 10.16mm, 05p; Manufacturer: Wurth Elektronik; Modularity: No; Rated Current: 10A; Wire Section: 16 to 30 (AWG) 1.31 to 0.0509 (mm^2); Working Voltage: 300V (AC); Manufacturer Part Number: 691416600005; Product Series: WR-TBL; ComponentLink1Description: Website Link; ComponentLink1URL: https://www.we-online.com; ComponentLink2Description: Datasheet Link; ComponentLink2URL: https://www.we-online.com/components/products/datasheet/691416600005; Mount: Through Hole; Operating Temperature Min: -30degC; Operating Temperature Max: 120degC; Packaging: Box; Application: Screwless; Number of Pins: 5; Number of Rows: 1; Orientation: Vertical; Lead Pitch: 10.16mm
footprint 691416600005
pins: 1, 2, 3, 4, 5

## 691416600006
designator J?  (value not drawn)
WR-TBL Series 4166 Vertical Entry, THT, pitch 10.16mm, 06p; Manufacturer: Wurth Elektronik; Modularity: No; Rated Current: 10A; Wire Section: 16 to 30 (AWG) 1.31 to 0.0509 (mm^2); Working Voltage: 300V (AC); Manufacturer Part Number: 691416600006; Product Series: WR-TBL; ComponentLink1Description: Website Link; ComponentLink1URL: https://www.we-online.com; ComponentLink2Description: Datasheet Link; ComponentLink2URL: https://www.we-online.com/components/products/datasheet/691416600006; Mount: Through Hole; Operating Temperature Min: -30degC; Operating Temperature Max: 120degC; Packaging: Box; Application: Screwless; Number of Pins: 6; Number of Rows: 1; Orientation: Vertical; Lead Pitch: 10.16mm
footprint 691416600006
pins: 1, 2, 3, 4, 5, 6

## 691417220002
designator J?  (value not drawn)
WR-TBL Series 4172 45° Cable Entry, THT, pitch 7mm, 02p; Manufacturer: Wurth Elektronik; Modularity: No; Rated Current: 4A; Wire Section: 16 to 30 (AWG) 1.31 to 0.0509 (mm^2); Working Voltage: 300V (AC); Manufacturer Part Number: 691417220002; Product Series: WR-TBL; ComponentLink1Description: Website Link; ComponentLink1URL: https://www.we-online.com; ComponentLink2Description: Datasheet Link; ComponentLink2URL: https://www.we-online.com/components/products/datasheet/691417220002; Mount: Through Hole; Operating Temperature Min: -30degC; Operating Temperature Max: 120degC; Packaging: Box; Application: Screwless; Number of Pins: 2; Number of Rows: 1; Orientation: 45deg; Lead Pitch: 7mm
footprint 691417220002
pins: 1, 2

## 691417220003
designator J?  (value not drawn)
WR-TBL Series 4172 45° Cable Entry, THT, pitch 7mm, 03p; Manufacturer: Wurth Elektronik; Modularity: No; Rated Current: 4A; Wire Section: 16 to 30 (AWG) 1.31 to 0.0509 (mm^2); Working Voltage: 300V (AC); Manufacturer Part Number: 691417220003; Product Series: WR-TBL; ComponentLink1Description: Website Link; ComponentLink1URL: https://www.we-online.com; ComponentLink2Description: Datasheet Link; ComponentLink2URL: https://www.we-online.com/components/products/datasheet/691417220003; Mount: Through Hole; Operating Temperature Min: -30degC; Operating Temperature Max: 120degC; Packaging: Box; Application: Screwless; Number of Pins: 3; Number of Rows: 1; Orientation: 45deg; Lead Pitch: 7mm
footprint 691417220003
pins: 1, 2, 3

## 691417220004
designator J?  (value not drawn)
WR-TBL Series 4172 45° Cable Entry, THT, pitch 7mm, 04p; Manufacturer: Wurth Elektronik; Modularity: No; Rated Current: 4A; Wire Section: 16 to 30 (AWG) 1.31 to 0.0509 (mm^2); Working Voltage: 300V (AC); Manufacturer Part Number: 691417220004; Product Series: WR-TBL; ComponentLink1Description: Website Link; ComponentLink1URL: https://www.we-online.com; ComponentLink2Description: Datasheet Link; ComponentLink2URL: https://www.we-online.com/components/products/datasheet/691417220004; Mount: Through Hole; Operating Temperature Min: -30degC; Operating Temperature Max: 120degC; Packaging: Box; Application: Screwless; Number of Pins: 4; Number of Rows: 1; Orientation: 45deg; Lead Pitch: 7mm
footprint 691417220004
pins: 1, 2, 3, 4

## 691417220005
designator J?  (value not drawn)
WR-TBL Series 4172 45° Cable Entry, THT, pitch 7mm, 05p; Manufacturer: Wurth Elektronik; Modularity: No; Rated Current: 4A; Wire Section: 16 to 30 (AWG) 1.31 to 0.0509 (mm^2); Working Voltage: 300V (AC); Manufacturer Part Number: 691417220005; Product Series: WR-TBL; ComponentLink1Description: Website Link; ComponentLink1URL: https://www.we-online.com; ComponentLink2Description: Datasheet Link; ComponentLink2URL: https://www.we-online.com/components/products/datasheet/691417220005; Mount: Through Hole; Operating Temperature Min: -30degC; Operating Temperature Max: 120degC; Packaging: Box; Application: Screwless; Number of Pins: 5; Number of Rows: 1; Orientation: 45deg; Lead Pitch: 7mm
footprint 691417220005
pins: 1, 2, 3, 4, 5

## 691417220006
designator J?  (value not drawn)
WR-TBL Series 4172 45° Cable Entry, THT, pitch 7mm, 06p; Manufacturer: Wurth Elektronik; Modularity: No; Rated Current: 4A; Wire Section: 16 to 30 (AWG) 1.31 to 0.0509 (mm^2); Working Voltage: 300V (AC); Manufacturer Part Number: 691417220006; Product Series: WR-TBL; ComponentLink1Description: Website Link; ComponentLink1URL: https://www.we-online.com; ComponentLink2Description: Datasheet Link; ComponentLink2URL: https://www.we-online.com/components/products/datasheet/691417220006; Mount: Through Hole; Operating Temperature Min: -30degC; Operating Temperature Max: 120degC; Packaging: Box; Application: Screwless; Number of Pins: 6; Number of Rows: 1; Orientation: 45deg; Lead Pitch: 7mm
footprint 691417220006
pins: 1, 2, 3, 4, 5, 6

## 691417320002S
designator J?  (value not drawn)
WR-TBL Series 4173S 45° Cable Entry, THT, pitch 3.81mm, 02p; Manufacturer: Wurth Elektronik; Modularity: No; Rated Current: 4A; Wire Section: 16 to 30 (AWG) 1.31 to 0.0509 (mm^2); Working Voltage: 300V (AC); Manufacturer Part Number: 691417320002S; Product Series: WR-TBL; ComponentLink1Description: Website Link; ComponentLink1URL: https://www.we-online.com; ComponentLink2Description: Datasheet Link; ComponentLink2URL: https://www.we-online.com/components/products/datasheet/691417320002S; Mount: Through Hole; Operating Temperature Min: -30degC; Operating Temperature Max: 120degC; Packaging: Box; Application: Screwless; Number of Pins: 2; Number of Rows: 1; Orientation: 45deg; Lead Pitch: 3.81mm
footprint 691417320002S
pins: 1, 2

## 691417320003S
designator J?  (value not drawn)
WR-TBL Series 4173S 45° Cable Entry, THT, pitch 3.81mm, 03p; Manufacturer: Wurth Elektronik; Modularity: No; Rated Current: 4A; Wire Section: 16 to 30 (AWG) 1.31 to 0.0509 (mm^2); Working Voltage: 300V (AC); Manufacturer Part Number: 691417320003S; Product Series: WR-TBL; ComponentLink1Description: Website Link; ComponentLink1URL: https://www.we-online.com; ComponentLink2Description: Datasheet Link; ComponentLink2URL: https://www.we-online.com/components/products/datasheet/691417320003S; Mount: Through Hole; Operating Temperature Min: -30degC; Operating Temperature Max: 120degC; Packaging: Box; Application: Screwless; Number of Pins: 3; Number of Rows: 1; Orientation: 45deg; Lead Pitch: 3.81mm
footprint 691417320003S
pins: 1, 2, 3

## 691417320004S
designator J?  (value not drawn)
WR-TBL Series 4173S 45° Cable Entry, THT, pitch 3.81mm, 04p; Manufacturer: Wurth Elektronik; Modularity: No; Rated Current: 4A; Wire Section: 16 to 30 (AWG) 1.31 to 0.0509 (mm^2); Working Voltage: 300V (AC); Manufacturer Part Number: 691417320004S; Product Series: WR-TBL; ComponentLink1Description: Website Link; ComponentLink1URL: https://www.we-online.com; ComponentLink2Description: Datasheet Link; ComponentLink2URL: https://www.we-online.com/components/products/datasheet/691417320004S; Mount: Through Hole; Operating Temperature Min: -30degC; Operating Temperature Max: 120degC; Packaging: Box; Application: Screwless; Number of Pins: 4; Number of Rows: 1; Orientation: 45deg; Lead Pitch: 3.81mm
footprint 691417320004S
pins: 1, 2, 3, 4